# Altium integrated library FTSH-105-01-F-DV-P-TR.IntLib: 1 symbol
Pins are listed as number, name and electrical type; pins without a type are passive.

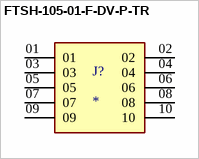
[diagram p0: symbol FTSH-105-01-F-DV-P-TR]

## FTSH-105-01-F-DV-P-TR
designator J?
MF: Samtec; MP: FTSH-105-01-F-DV-P-TR; Package: None; Price: None; Value: *; Availability: Unavailable
footprint SAMTEC_FTSH-105-01-F-DV-P-TR
pins: 01, 02, 03, 04, 05, 06, 07, 08, 09, 10